# Altium schematic symbol library SCH - PASSIVES - CAPACITOR - C4AQQBU4330A1YJ.SCHLIB: 1 symbol
Pins are listed as number, name and electrical type; pins without a type are passive.

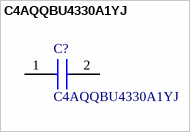
[diagram p0: symbol C4AQQBU4330A1YJ]

## C4AQQBU4330A1YJ
designator C?
Capacitor; Manufacturer: Kemet; Value: 3.3 µF; Voltage: 1100 V; Datasheet Link: https://www.mouser.com/datasheet/2/212/C4AQQBU4330A1YJ-1286330.pdf; Height: 28.2mm; Manufacturer Part Number: C4AQQBU4330A1YJ; Supplier Part Number 1: 80-C4AQQBU4330A1YJ; Supplier Part Number 2: 1744503P; Mounting Technology: THT; Supplier 1: Mouser; Supplier 2: RS Components
footprint C4AQQBU4330A1YJ
pins: 1, 2